# EAGLE library part SWITCH_4PDT (library laforge)
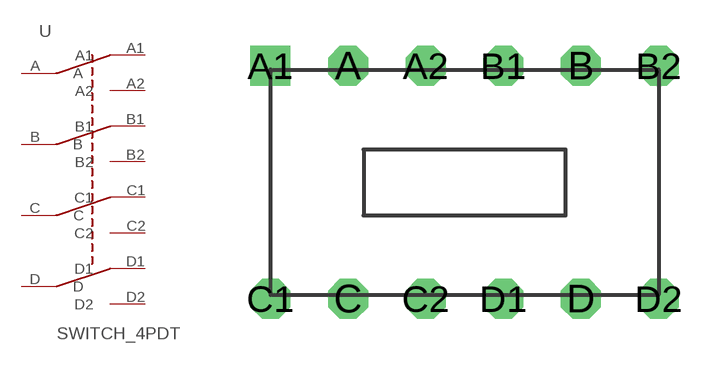
[diagram p25: symbol with the pads of 4PDT_DIL12; footprint 4PDT_DIL12]

Designator prefix -

## SWITCH_4PDT (OC_DIGIKEY: 450-1633-ND)  [4PDT_DIL12]
A  A
A1  A1
A2  A2
B  B
B1  B1
B2  B2
C  C
C1  C1
C2  C2
D  D
D1  D1
D2  D2

## Footprint 4PDT_DIL12 (pad centres in mm)
drill 0.8 octagon: A -3.81,3.81; A2 -1.27,3.81; B 3.81,3.81; B1 1.27,3.81; B2 6.35,3.81; C -3.81,-3.81; C1 -6.35,-3.81; C2 -1.27,-3.81; D 3.81,-3.81; D1 1.27,-3.81; D2 6.35,-3.81
drill 0.8 square: A1 -6.35,3.81